# EAGLE library part TB67S109A (library LARS_409_MC)
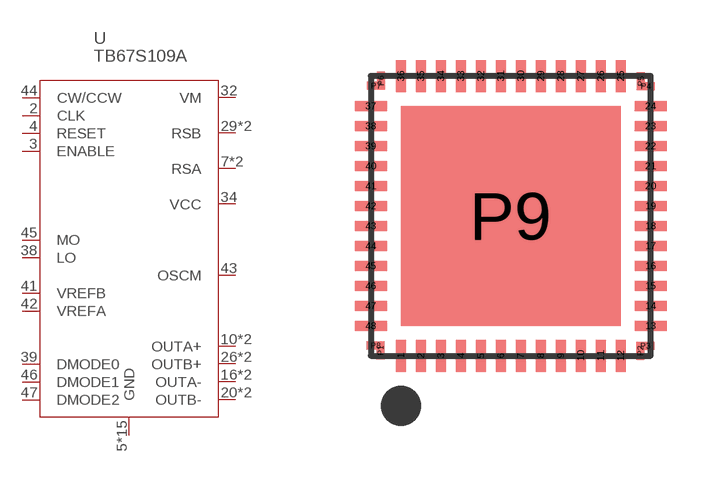
[diagram p45: symbol with the pads of WQFN-48; footprint WQFN-48]

Designator prefix U

## TB67S109A  [WQFN-48]
2  CLK
3  ENABLE
4  RESET
5  GND
7  RSA
8  RSA
10  OUTA+
11  OUTA+
15  GND
16  OUTA-
17  OUTA-
18  GND
19  GND
20  OUTB-
21  OUTB-
22  GND
26  OUTB+
27  OUTB+
29  RSB
30  RSB
32  VM
34  VCC
38  LO
39  DMODE0
40  GND
41  VREFB
42  VREFA
43  OSCM
44  CW/CCW
45  MO
46  DMODE1
47  DMODE2
P1  GND
P2  GND
P3  GND
P4  GND
P5  GND
P6  GND
P7  GND
P8  GND
P9  GND

## Footprint WQFN-48 (pad centres in mm)
smd 0.25 x 0.8: 1 -2.75,-3.5; 2 -2.25,-3.5; 3 -1.75,-3.5; 4 -1.25,-3.5; 5 -0.75,-3.5; 6 -0.25,-3.5; 7 0.25,-3.5; 8 0.75,-3.5; 9 1.25,-3.5; 10 1.75,-3.5; 11 2.25,-3.5; 12 2.75,-3.5; 25 2.75,3.5; 26 2.25,3.5; 27 1.75,3.5; 28 1.25,3.5; 29 0.75,3.5; 30 0.25,3.5; 31 -0.25,3.5; 32 -0.75,3.5; 33 -1.25,3.5; 34 -1.75,3.5; 35 -2.25,3.5; 36 -2.75,3.5
smd 0.8 x 0.25: 13 3.5,-2.75; 14 3.5,-2.25; 15 3.5,-1.75; 16 3.5,-1.25; 17 3.5,-0.75; 18 3.5,-0.25; 19 3.5,0.25; 20 3.5,0.75; 21 3.5,1.25; 22 3.5,1.75; 23 3.5,2.25; 24 3.5,2.75; 37 -3.5,2.75; 38 -3.5,2.25; 39 -3.5,1.75; 40 -3.5,1.25; 41 -3.5,0.75; 42 -3.5,0.25; 43 -3.5,-0.25; 44 -3.5,-0.75; 45 -3.5,-1.25; 46 -3.5,-1.75; 47 -3.5,-2.25; 48 -3.5,-2.75
smd 0.2 x 0.45: P1 -3.255,-3.37; P2 3.245,-3.38; P5 3.255,3.37; P6 -3.245,3.38
smd 0.45 x 0.2: P3 3.37,-3.255; P4 3.38,3.245; P7 -3.37,3.255; P8 -3.38,-3.245
smd 5.5 x 5.5: P9 0,0